# Altium footprint library WPME-FDSM.PcbLib: 4 footprints
Each footprint in its own frame and in the unit in brackets; x right, y up, seen from the top. Pads: shape width x height; smd on the part's side, far side on the other; paste and mask are expansions set on the pad; w line width, h text height; cw(c..) or ccw(c..) is an arc to the next point about the centre after c.
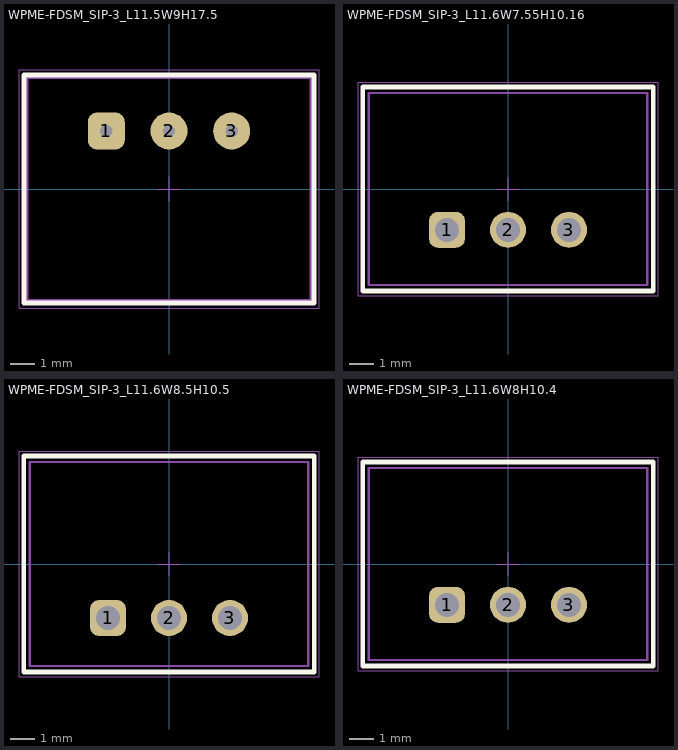
[diagram p0: the footprints below, top view; thin cyan lines are the x and y axes]

## WPME-FDSM_SIP-3_L11.5W9H17.5 [mm] "Fixed Step Down Regulator Module, SIP-3, body 11.50x9.00mm"
height 17.5
pads (3):
  rrect50% 1.5x1.5 hole 0.5: 1(-2.54,2.35)
  round 1.5 hole 0.5: 2(0,2.35) 3(2.54,2.35)
Top Overlay:
  lines w0.2: -5.875,-4.625 5.875,-4.625 5.875,4.625 -5.875,4.625 -5.875,-4.625
Top Designator:
  text ".Designator" at -7.498,-0.5 h1.5
Top Component Outline:
  lines w0.1: -5.75,-4.5 5.75,-4.5 5.75,4.5 -5.75,4.5 -5.75,-4.5
Top 3D Body:
  lines w0.1: -5.75,-4.5 5.75,-4.5 5.75,4.5 -5.75,4.5 -5.75,-4.5
Top Courtyard:
  lines w0.05: -0.5,0 0.5,0 ; 0,-0.5 0,0.5 ; -6.075,-4.825 6.075,-4.825 6.075,4.825 -6.075,4.825 -6.075,-4.825
3D body "173950375.stp": height 17.5, standoff -4.1, extent -5.75,-4.5 5.75,4.5

## WPME-FDSM_SIP-3_L11.6W7.55H10.16 [mm] "Fixed Step Down Regulator Module, SIP-3, body 11.60x7.55mm"
height 10.16
pads (3):
  rrect50% 1.5x1.5 hole 1: 1(-2.54,-1.7)
  round 1.5 hole 1: 2(0,-1.7) 3(2.54,-1.7)
Top Overlay:
  lines w0.2: -6.05,-4.25 -6.05,4.25 6.05,4.25 6.05,-4.25 -6.05,-4.25
Top Designator:
  text ".Designator" at -7.498,-0.5 h1.5
Top Component Outline:
  lines w0.1: -5.8,-4 5.8,-4 5.8,4 -5.8,4 -5.8,-4
Top 3D Body:
  lines w0.1: -5.8,-4 5.8,-4 5.8,4 -5.8,4 -5.8,-4
Top Courtyard:
  lines w0.05: -0.5,0 0.5,0 ; 0,-0.5 0,0.5 ; -6.25,-4.45 6.25,-4.45 6.25,4.45 -6.25,4.45 -6.25,-4.45
3D body "173010535.stp": height 10.5, standoff -4, extent -5.8,-4 5.8,4

## WPME-FDSM_SIP-3_L11.6W8.5H10.5 [mm] "Fixed Step Down Regulator Module, SIP-3, body 11.60x8.50mm"
height 10.5
pads (3):
  rrect50% 1.5x1.5 hole 1: 1(-2.54,-2.25)
  round 1.5 hole 1: 2(0,-2.25) 3(2.54,-2.25)
Top Overlay:
  lines w0.2: -6.05,-4.5 6.05,-4.5 6.05,4.5 -6.05,4.5 -6.05,-4.5
Top Designator:
  text ".Designator" at -7.498,-0.5 h1.5
Top Component Outline:
  lines w0.1: -5.8,-4.25 -5.8,4.25 5.8,4.25 5.8,-4.25 -5.8,-4.25
Top 3D Body:
  lines w0.1: -5.8,-4.25 -5.8,4.25 5.8,4.25 5.8,-4.25 -5.8,-4.25
Top Courtyard:
  lines w0.05: -0.5,0 0.5,0 ; 0,-0.5 0,0.5 ; -6.25,-4.7 -6.25,4.7 6.25,4.7 6.25,-4.7 -6.25,-4.7
3D body "173950378.stp": height 10.55, standoff -3.95, extent -5.8,-4.26 5.8,4.25

## WPME-FDSM_SIP-3_L11.6W8H10.4 [mm] "Fixed Step Down Regulator Module, SIP-3, body 11.60x80mm"
height 10.4
pads (3):
  rrect50% 1.5x1.5 hole 1: 1(-2.54,-1.7)
  round 1.5 hole 1: 2(0,-1.7) 3(2.54,-1.7)
Top Overlay:
  lines w0.2: -6.05,-4.25 6.05,-4.25 6.05,4.25 -6.05,4.25 -6.05,-4.25
Top Designator:
  text ".Designator" at -7.498,-0.5 h1.5
Top Component Outline:
  lines w0.1: -5.8,-4 -5.8,4 5.8,4 5.8,-4 -5.8,-4
Top 3D Body:
  lines w0.1: -5.8,-4 -5.8,4 5.8,4 5.8,-4 -5.8,-4
Top Courtyard:
  lines w0.05: -0.5,0 0.5,0 ; 0,-0.5 0,0.5 ; -6.25,-4.45 -6.25,4.45 6.25,4.45 6.25,-4.45 -6.25,-4.45
3D body "173010x35.stp": height 10.45, standoff -4.05, extent -5.8,-4 5.8,4